# Altium footprint library Display.PcbLib: 4 footprints
Each footprint in its own frame and in the unit in brackets; x right, y up, seen from the top. Pads: shape width x height; smd on the part's side, far side on the other; paste and mask are expansions set on the pad; w line width, h text height; cw(c..) or ccw(c..) is an arc to the next point about the centre after c.
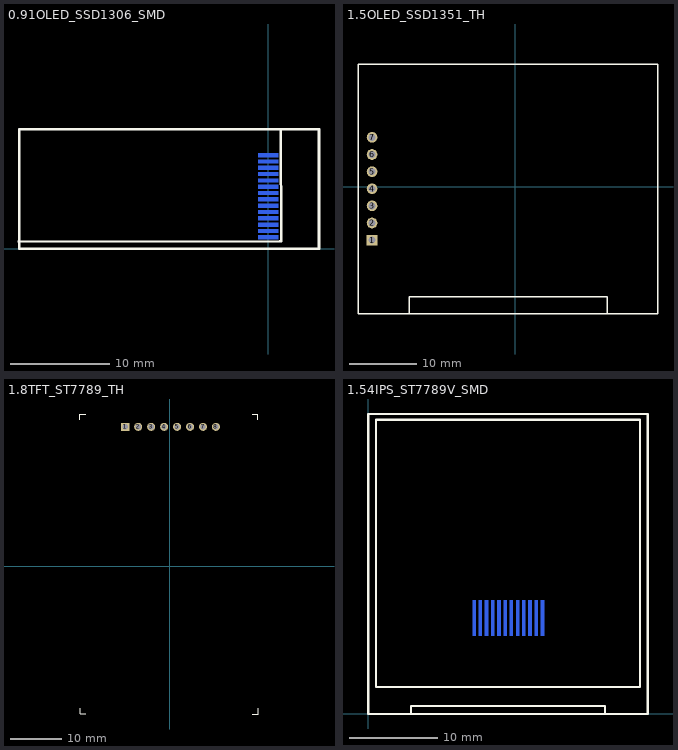
[diagram p0: the footprints below, top view; thin cyan lines are the x and y axes]

## 0.91OLED_SSD1306_SMD [mm]
pads (14):
  rect 2x0.38 smd far side: 1(0,1.155) 2(0,1.789) 3(0,2.423) 4(0,3.057) 5(0,3.691) 6(0,4.325) 7(0,4.959) 8(0,5.593) 9(0,6.227) 10(0,6.861) 11(0,7.495) 12(0,8.129) 13(0,8.763) 14(0,9.397)
Top Overlay:
  lines w0.254: -25.019,0.762 -25.019,0.686 1.143,0.762 ; 1.266,12 1.27,0.762 ; -25,0 5,0 5.08,0 5.08,12 -25,12 -25,0

## 1.5OLED_SSD1351_TH [mil]
pads (7):
  rect 62x62 hole 40.16: 1(-837,-312)
  round 62 hole 40.16: 2(-837,-212) 3(-837,-112) 4(-837,-12) 5(-837,88) 6(-837,188) 7(-837,288)
Top Overlay:
  lines w8: -620,-742 -620,-643 536,-643 536,-742 ; -919,-742 -919,715 833,715 833,-742 -919,-742

## 1.8TFT_ST7789_TH [mil]
pads (8):
  rect 62x62 hole 40.16: 1(-343,1077)
  round 62 hole 40.16: 2(-243,1077) 3(-143,1077) 4(-43,1077) 5(57,1077) 6(157,1077) 7(257,1077) 8(357,1077)
Top Overlay:
  lines w8: -693,1132 -693,1175 -647,1175 ; -692,-1094 -692,-1138 -647,-1138 ; 638,-1139 682,-1139 682,-1094 ; 638,1176 681,1176 681,1130

## 1.54IPS_ST7789V_SMD [mm]
pads (12):
  rect 0.35x4 smd far side: 1(19.629,10.795) 2(18.929,10.795) 3(18.229,10.795) 4(17.529,10.795) 5(16.829,10.795) 6(16.129,10.795) 7(15.429,10.795) 8(14.729,10.795) 9(14.029,10.795) 10(13.329,10.795) 11(12.629,10.795) 12(11.929,10.795)
Top Overlay:
  lines w0.254: 4.826,0 4.826,0.889 26.67,0.889 26.67,0 ; 30.607,3.048 30.607,33.168 ; 30.609,3.027 0.889,3.027 0.889,33.147 30.609,33.147 ; 0,0 0,33.782 31.496,33.782 31.496,0 0,0